# Altium footprint library Passives.PcbLib: 14 footprints
Each footprint in its own frame and in the unit in brackets; x right, y up, seen from the top. Pads: shape width x height; smd on the part's side, far side on the other; paste and mask are expansions set on the pad; w line width, h text height; cw(c..) or ccw(c..) is an arc to the next point about the centre after c.
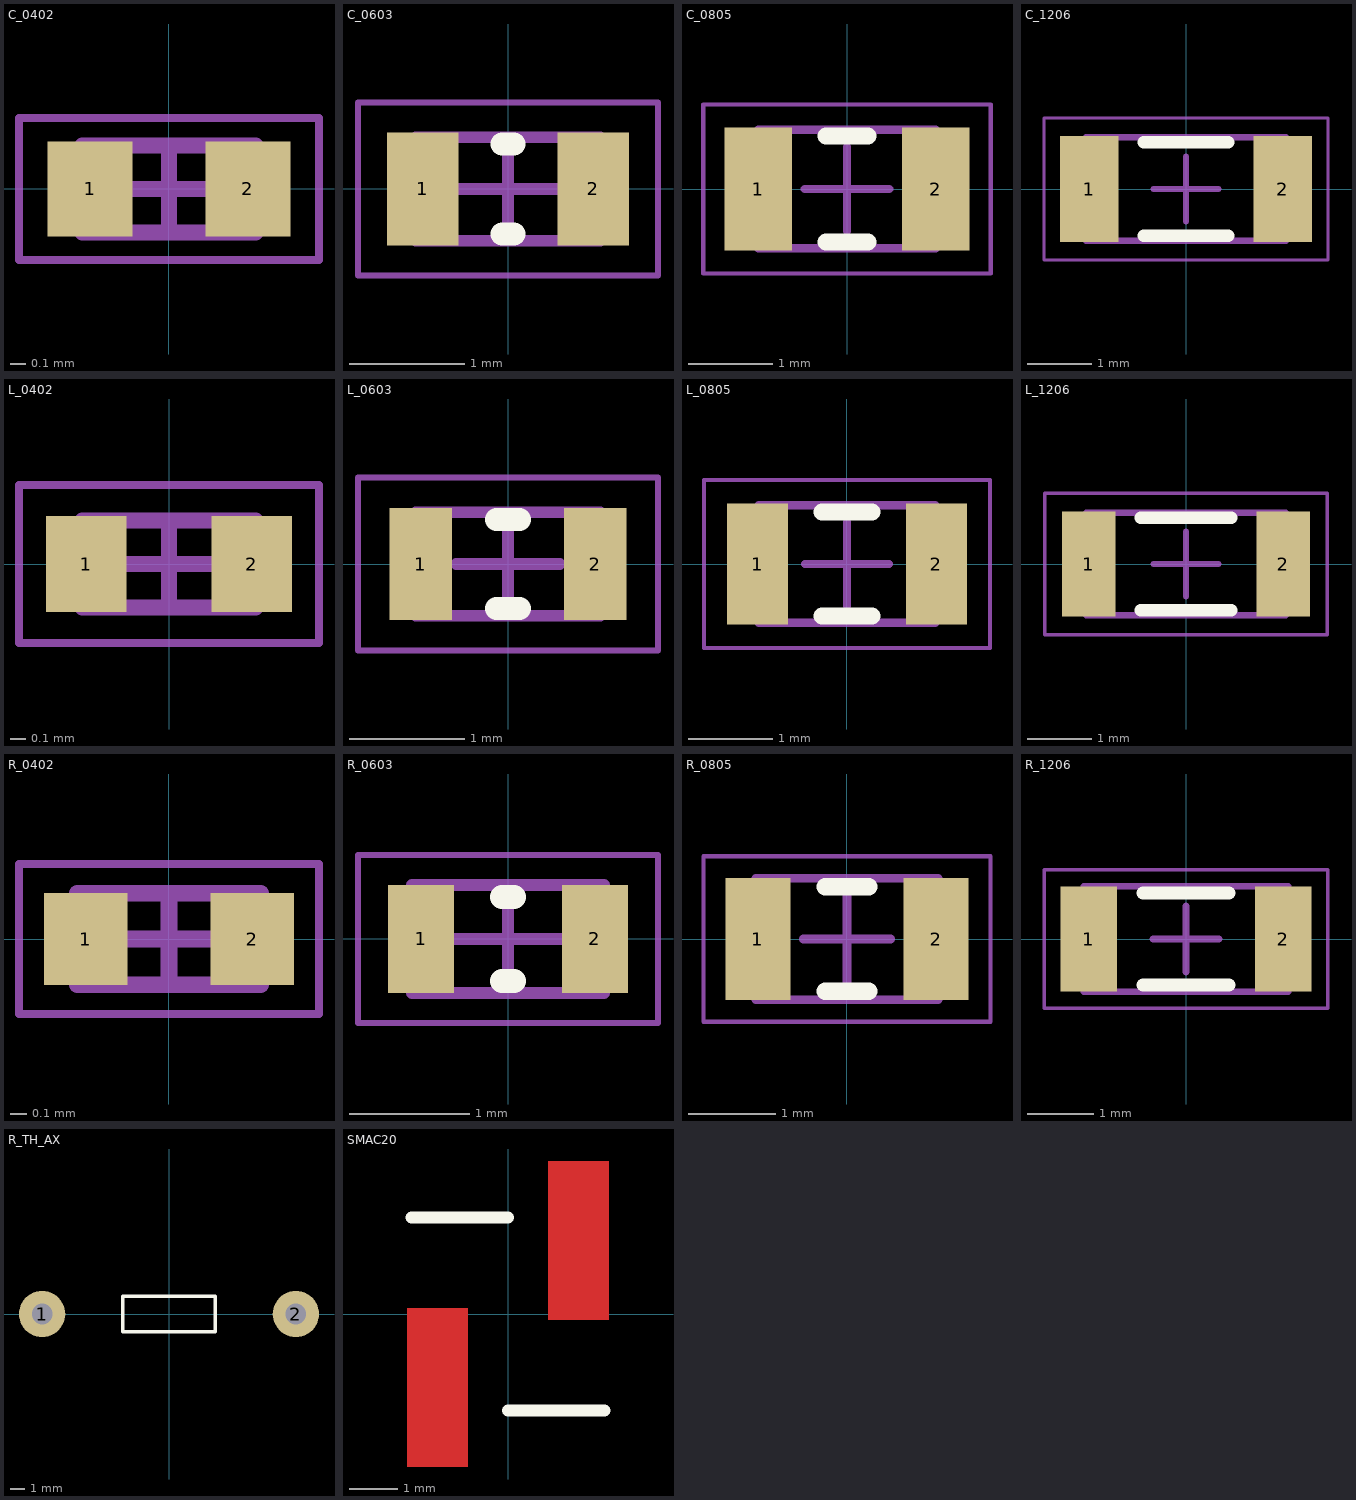
[diagram p0: the footprints below, top view; thin cyan lines are the x and y axes]

## C_0402 [mm] "Chip Capacitor, 2-Leads, Body 1.00x0.48mm, IPC Medium Density"
height 0.5
pads (2):
  rect 0.54x0.6 smd: 1(-0.5,0) 2(0.5,0)
Mechanical 13:
  lines w0.1: -0.55,-0.275 0.55,-0.275 0.55,0.275 -0.55,0.275 -0.55,-0.275
Mechanical 15:
  lines w0.05: -0.95,-0.45 0.95,-0.45 0.95,0.45 -0.95,0.45 -0.95,-0.45
  lines w0.1: -0.275,0 0.275,0 ; 0,-0.275 0,0.275
3D body "CAPC1005X05N.step": height 0.5, standoff 0, extent -0.55,-0.275 0.55,0.275

## C_0603 [mm] "Chip Capacitor, 2-Leads, Body 1.55x0.85mm, IPC Medium Density"
height 0.6
pads (2):
  rect 0.62x0.98 smd: 1(-0.74,0) 2(0.74,0)
Top Overlay:
  lines w0.2: -0.05,-0.39 0.05,-0.39 ; -0.05,0.39 0.05,0.39
Mechanical 13:
  lines w0.1: -0.8,-0.45 -0.8,0.45 0.8,0.45 0.8,-0.45 -0.8,-0.45
Mechanical 15:
  lines w0.05: -1.3,-0.75 -1.3,0.75 1.3,0.75 1.3,-0.75 -1.3,-0.75
  lines w0.1: -0.45,0 0.45,0 ; 0,-0.45 0,0.45
3D body "CAPC1608X06N.step": height 0.6, standoff 0, extent -0.8,-0.45 0.8,0.45

## C_0805 [mm] "Chip Capacitor, 2-Leads, Body 2.00x1.30mm, IPC Medium Density"
height 0.6
pads (2):
  rect 0.8x1.45 smd: 1(-1.05,0) 2(1.05,0)
Top Overlay:
  lines w0.2: -0.25,-0.625 0.25,-0.625 ; -0.25,0.625 0.25,0.625
Mechanical 13:
  lines w0.1: -1.05,-0.7 -1.05,0.7 1.05,0.7 1.05,-0.7 -1.05,-0.7
Mechanical 15:
  lines w0.05: -1.7,-1 -1.7,1 1.7,1 1.7,-1 -1.7,-1
  lines w0.1: -0.5,0 0.5,0 ; 0,-0.5 0,0.5
3D body "CAPC2013X06N.step": height 0.6, standoff 0, extent -1.05,-0.7 1.05,0.7

## C_1206 [mm] "Chip Capacitor, 2-Leads, Body 3.00x1.50mm, IPC Medium Density"
height 1.2
pads (2):
  rect 0.9x1.65 smd: 1(-1.5,0) 2(1.5,0)
Top Overlay:
  lines w0.2: -0.65,-0.725 0.65,-0.725 ; -0.65,0.725 0.65,0.725
Mechanical 13:
  lines w0.1: -1.55,-0.8 1.55,-0.8 1.55,0.8 -1.55,0.8 -1.55,-0.8
Mechanical 15:
  lines w0.05: -2.2,-1.1 2.2,-1.1 2.2,1.1 -2.2,1.1 -2.2,-1.1
  lines w0.1: -0.5,0 0.5,0 ; 0,-0.5 0,0.5
3D body "CAPC3015X12N.step": height 1.2, standoff 0, extent -1.55,-0.8 1.55,0.8

## L_0402 [mm] "Chip Inductor, 2-Leads, Body 1.00x0.48mm, IPC Medium Density"
height 0.5
pads (2):
  rect 0.51x0.61 smd: 1(-0.525,0) 2(0.525,0)
Mechanical 13:
  lines w0.1: -0.55,-0.275 0.55,-0.275 0.55,0.275 -0.55,0.275 -0.55,-0.275
Mechanical 15:
  lines w0.05: -0.95,-0.5 0.95,-0.5 0.95,0.5 -0.95,0.5 -0.95,-0.5
  lines w0.1: -0.275,0 0.275,0 ; 0,-0.275 0,0.275
3D body "INDC1005X05N.step": height 0.5, standoff 0, extent -0.55,-0.275 0.55,0.275

## L_0603 [mm] "Chip Inductor, 2-Leads, Body 1.55x0.85mm, IPC Medium Density"
height 0.6
pads (2):
  rect 0.54x0.97 smd: 1(-0.755,0) 2(0.755,0)
Top Overlay:
  lines w0.2: -0.1,-0.385 0.1,-0.385 ; -0.1,0.385 0.1,0.385
Mechanical 13:
  lines w0.1: -0.8,-0.45 0.8,-0.45 0.8,0.45 -0.8,0.45 -0.8,-0.45
Mechanical 15:
  lines w0.05: -1.3,-0.75 1.3,-0.75 1.3,0.75 -1.3,0.75 -1.3,-0.75
  lines w0.1: -0.45,0 0.45,0 ; 0,-0.45 0,0.45
3D body "INDC1608X06N.step": height 0.6, standoff 0, extent -0.8,-0.45 0.8,0.45

## L_0805 [mm] "Chip Inductor, 2-Leads, Body 2.00x1.30mm, IPC Medium Density"
height 0.6
pads (2):
  rect 0.73x1.44 smd: 1(-1.065,0) 2(1.065,0)
Top Overlay:
  lines w0.2: -0.3,-0.62 0.3,-0.62 ; -0.3,0.62 0.3,0.62
Mechanical 13:
  lines w0.1: -1.05,-0.7 1.05,-0.7 1.05,0.7 -1.05,0.7 -1.05,-0.7
Mechanical 15:
  lines w0.05: -1.7,-1 1.7,-1 1.7,1 -1.7,1 -1.7,-1
  lines w0.1: -0.5,0 0.5,0 ; 0,-0.5 0,0.5
3D body "INDC2013X06N.step": height 0.6, standoff 0, extent -1.05,-0.7 1.05,0.7

## L_1206 [mm] "Chip Inductor, 2-Leads, Body 3.00x1.50mm, IPC Medium Density"
height 1.2
pads (2):
  rect 0.83x1.64 smd: 1(-1.515,0) 2(1.515,0)
Top Overlay:
  lines w0.2: -0.7,-0.72 0.7,-0.72 ; -0.7,0.72 0.7,0.72
Mechanical 13:
  lines w0.1: -1.55,-0.8 1.55,-0.8 1.55,0.8 -1.55,0.8 -1.55,-0.8
Mechanical 15:
  lines w0.05: -2.2,-1.1 2.2,-1.1 2.2,1.1 -2.2,1.1 -2.2,-1.1
  lines w0.1: -0.5,0 0.5,0 ; 0,-0.5 0,0.5
3D body "INDC3015X12N.step": height 1.2, standoff 0, extent -1.55,-0.8 1.55,0.8

## R_0402 [mm] "Chip Resistor, 2-Leads, Body 1.00x0.48mm, IPC Medium Density"
height 0.5
pads (2):
  rect 0.5x0.55 smd: 1(-0.5,0) 2(0.5,0)
Mechanical 13:
  lines w0.1: -0.55,-0.275 -0.55,0.275 0.55,0.275 0.55,-0.275 -0.55,-0.275
Mechanical 15:
  lines w0.05: -0.9,-0.45 -0.9,0.45 0.9,0.45 0.9,-0.45 -0.9,-0.45
  lines w0.1: -0.275,0 0.275,0 ; 0,-0.275 0,0.275
3D body "RESC1005X05N.step": height 0.5, standoff 0, extent -0.55,-0.275 0.55,0.275

## R_0603 [mm] "Chip Resistor, 2-Leads, Body 1.55x0.85mm, IPC Medium Density"
height 0.6
pads (2):
  rect 0.55x0.9 smd: 1(-0.725,0) 2(0.725,0)
Top Overlay:
  lines w0.2: -0.05,-0.35 0.05,-0.35 ; -0.05,0.35 0.05,0.35
Mechanical 13:
  lines w0.1: -0.8,-0.45 -0.8,0.45 0.8,0.45 0.8,-0.45 -0.8,-0.45
Mechanical 15:
  lines w0.05: -1.25,-0.7 -1.25,0.7 1.25,0.7 1.25,-0.7 -1.25,-0.7
  lines w0.1: -0.45,0 0.45,0 ; 0,-0.45 0,0.45
3D body "RESC1608X06N.step": height 0.6, standoff 0, extent -0.8,-0.45 0.8,0.45

## R_0805 [mm] "Chip Resistor, 2-Leads, Body 2.00x1.30mm, IPC Medium Density"
height 0.6
pads (2):
  rect 0.75x1.4 smd: 1(-1.025,0) 2(1.025,0)
Top Overlay:
  lines w0.2: -0.25,-0.6 0.25,-0.6 ; -0.25,0.6 0.25,0.6
Mechanical 13:
  lines w0.1: -1.05,-0.7 1.05,-0.7 1.05,0.7 -1.05,0.7 -1.05,-0.7
Mechanical 15:
  lines w0.05: -1.65,-0.95 1.65,-0.95 1.65,0.95 -1.65,0.95 -1.65,-0.95
  lines w0.1: -0.5,0 0.5,0 ; 0,-0.5 0,0.5
3D body "RESC2013X06N.step": height 0.6, standoff 0, extent -1.05,-0.7 1.05,0.7

## R_1206 [mm] "Chip Resistor, 2-Leads, Body 3.00x1.50mm, IPC Medium Density"
height 1.2
pads (2):
  rect 0.85x1.6 smd: 1(-1.475,0) 2(1.475,0)
Top Overlay:
  lines w0.2: -0.65,-0.7 0.65,-0.7 ; -0.65,0.7 0.65,0.7
Mechanical 13:
  lines w0.1: -1.55,-0.8 1.55,-0.8 1.55,0.8 -1.55,0.8 -1.55,-0.8
Mechanical 15:
  lines w0.05: -2.15,-1.05 2.15,-1.05 2.15,1.05 -2.15,1.05 -2.15,-1.05
  lines w0.1: -0.5,0 0.5,0 ; 0,-0.5 0,0.5
3D body "RESC3015X12N.step": height 1.2, standoff 0, extent -1.55,-0.8 1.55,0.8

## R_TH_AX [mm] "PR01 Vishay Through-hole resistor"
height 2.5
pads (2):
  round 3.25 hole 1.45: 1(-8.9,0) 2(8.9,0)
Top Overlay:
  lines w0.254: -3.25,-1.25 3.25,-1.25 3.25,1.25 -3.25,1.25 -3.25,-1.25

## SMAC20 [mm] "5% SMD Air Core Inductor"
height 3.18
Top Layer:
  region: -0.825,-3.172 -0.825,0.128 -2.095,0.128 -2.095,-3.172
  region: 2.095,-0.128 2.095,3.172 0.825,3.172 0.825,-0.128
Top Overlay:
  lines w0.254: -2,2 0,2 ; 0,-2 2,-2